# Altium footprint library ATK-OV5640.PcbLib: 7 footprints
Each footprint in its own frame and in the unit in brackets; x right, y up, seen from the top. Pads: shape width x height; smd on the part's side, far side on the other; paste and mask are expansions set on the pad; w line width, h text height; cw(c..) or ccw(c..) is an arc to the next point about the centre after c.
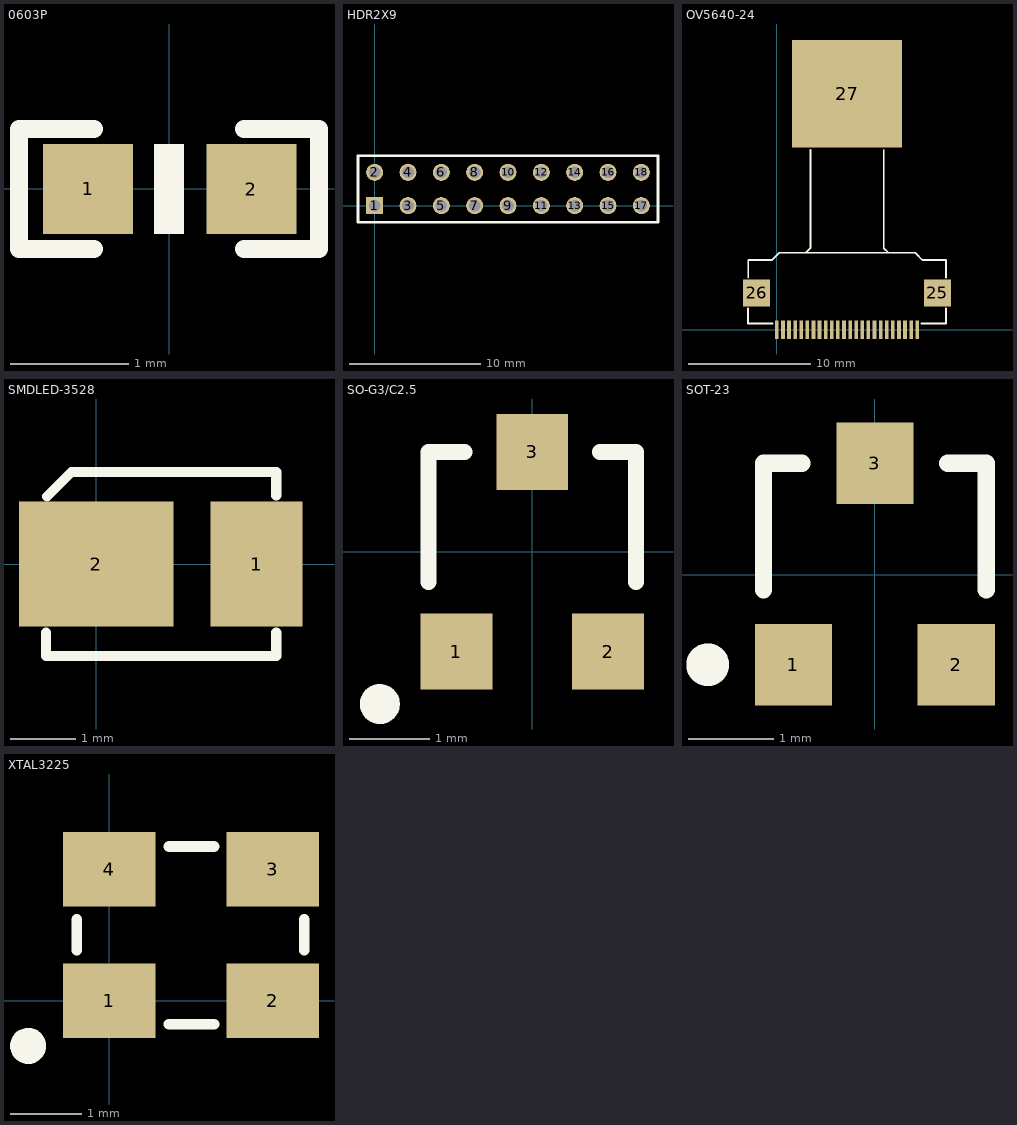
[diagram p0: the footprints below, top view; thin cyan lines are the x and y axes]

## 0603P [mil]
pads (2):
  rect 30x30 smd: 1(-27,0) 2(27.5,-0.06)
Top Overlay:
  region: 5,-15.06 5,14.94 -5,14.94 -5,-15.06
  lines w6: -25,-20.06 -50,-20.06 -50,19.94 -25,19.94 ; 25,-20.06 50,-20.06 50,19.94 25,19.94

## HDR2X9 [mm]
pads (18):
  rect 1.3x1.3 hole 0.889: 1(0,0)
  round 1.3 hole 0.889: 2(0,2.54) 3(2.54,0) 4(2.54,2.54) 5(5.08,0) 6(5.08,2.54) 7(7.62,0) 8(7.62,2.54) 9(10.16,0) 10(10.16,2.54) 11(12.7,0) 12(12.7,2.54) 13(15.24,0) 14(15.24,2.54) 15(17.78,0) 16(17.78,2.54) 17(20.32,0) 18(20.32,2.54)
Top Overlay:
  lines w0.2: -1.27,-1.27 -1.27,3.81 21.59,3.81 21.59,-1.27 -1.27,-1.27

## OV5640-24 [mm]
pads (27):
  rect 0.3x1.5 smd: 1(0,0) 2(0.5,0) 3(1,0) 4(1.5,0) 5(2,0) 6(2.5,0) 7(3,0) 8(3.5,0) 9(4,0) 10(4.5,0) 11(5,0) 12(5.5,0) 13(6,0) 14(6.5,0) 15(7,0) 16(7.5,0) 17(8,0) 18(8.5,0) 19(9,0) 20(9.5,0) 21(10,0) 22(10.5,0) 23(11,0) 24(11.5,0)
  rect 2.2x2.2 smd: 25(13.151,3.023) 26(-1.657,3.023)
  rect 9x8.8 smd: 27(5.753,19.317)
Top Overlay:
  lines w0.152: -2.356,1.753 -2.356,0.508 -0.336,0.508 ; -2.343,4.293 -2.343,5.708 ; -2.325,5.708 -0.432,5.708 -0.413,5.708 0.187,6.308 ; 0.33,6.308 0.187,6.308 ; 2.159,6.308 2.371,6.308 2.753,6.69 2.753,14.732 ; 8.753,14.732 8.753,13.424 8.753,6.724 8.753,6.699 9.144,6.308 ; 9.186,6.308 9.271,6.308 ; 11.83,0.508 13.85,0.508 13.85,1.753 ; 13.85,4.293 13.85,5.708 ; 13.85,5.715 13.843,5.708 11.93,5.708 11.33,6.308 0.187,6.308

## SMDLED-3528 [mm]
pads (2):
  rect 1.4x1.9 smd: 1(2.438,0)
  rect 2.35x1.9 smd: 2(0,0)
Top Overlay:
  lines w0.152: -0.762,-1.041 -0.762,-1.397 2.738,-1.397 2.738,-1.041 ; -0.749,1.029 -0.375,1.403 2.738,1.403 2.738,1.041

## SO-G3/C2.5 [mm]
pads (3):
  rect 0.9x0.95 smd: 1(-0.95,-1.25) 2(0.95,-1.25) 3(0,1.25)
Top Overlay:
  circle w0.25: c-1.907,-1.905 r0.125
  lines w0.2: -1.3,-0.375 -1.3,1.25 -0.85,1.25 ; 0.85,1.25 1.3,1.25 1.3,-0.375

## SOT-23 [mm]
pads (3):
  rect 0.9x0.95 smd: 1(-0.95,-1.048) 2(0.95,-1.048) 3(0,1.302)
Top Overlay:
  circle w0.25: c-1.95,-1.048 r0.125
  lines w0.2: -1.3,-0.173 -1.3,1.302 -0.85,1.302 ; 0.85,1.302 1.3,1.302 1.3,-0.173

## XTAL3225 [mm]
pads (4):
  rect 1.3x1.05 smd: 1(0,0) 2(2.3,0) 3(2.3,1.85) 4(0,1.85)
Top Overlay:
  circle w0.254: c-1.143,-0.635 r0.127
  lines w0.152: -0.457,0.711 -0.457,1.143 ; 0.838,-0.33 1.473,-0.33 ; 0.838,2.17 1.473,2.17 ; 2.743,0.711 2.743,1.143